# EAGLE library part MAX9601 (library MAX9601)
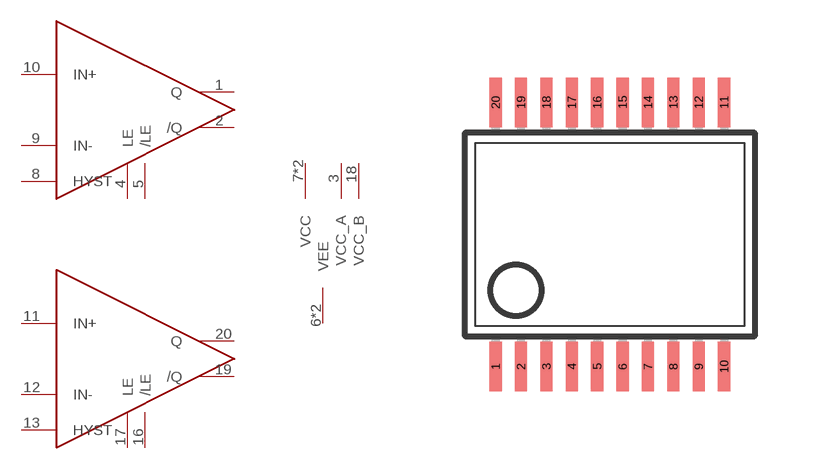
[diagram p0: symbol with the pads of SSOP20DB; footprint SSOP20DB]

Designator prefix -; gates G$1=MAX9601 G$2=MAX9601 G$3=PWR

## MAX9601  [SSOP20DB]
1  G$1:Q
2  G$1:/Q
3  G$3:VCC_A
4  G$1:LE
5  G$1:/LE
6  G$3:VEE
7  G$3:VCC
8  G$1:HYST
9  G$1:IN-
10  G$1:IN+
11  G$2:IN+
12  G$2:IN-
13  G$2:HYST
14  G$3:VCC
15  G$3:VEE
16  G$2:/LE
17  G$2:LE
18  G$3:VCC_B
19  G$2:/Q
20  G$2:Q

## Footprint SSOP20DB (pad centres in mm)
Small Shrink Outline Package
smd 0.305 x 1.245: 1 -2.857,-3.302; 2 -2.222,-3.302; 3 -1.587,-3.302; 4 -0.952,-3.302; 5 -0.317,-3.302; 6 0.318,-3.302; 7 0.953,-3.302; 8 1.588,-3.302; 9 2.223,-3.302; 10 2.858,-3.302; 11 2.858,3.302; 12 2.223,3.302; 13 1.588,3.302; 14 0.953,3.302; 15 0.318,3.302; 16 -0.317,3.302; 17 -0.952,3.302; 18 -1.587,3.302; 19 -2.222,3.302; 20 -2.857,3.302